# Altium integrated library MAR_modems_board_A0.IntLib: 45 symbols
Pins are listed as number, name and electrical type; pins without a type are passive.

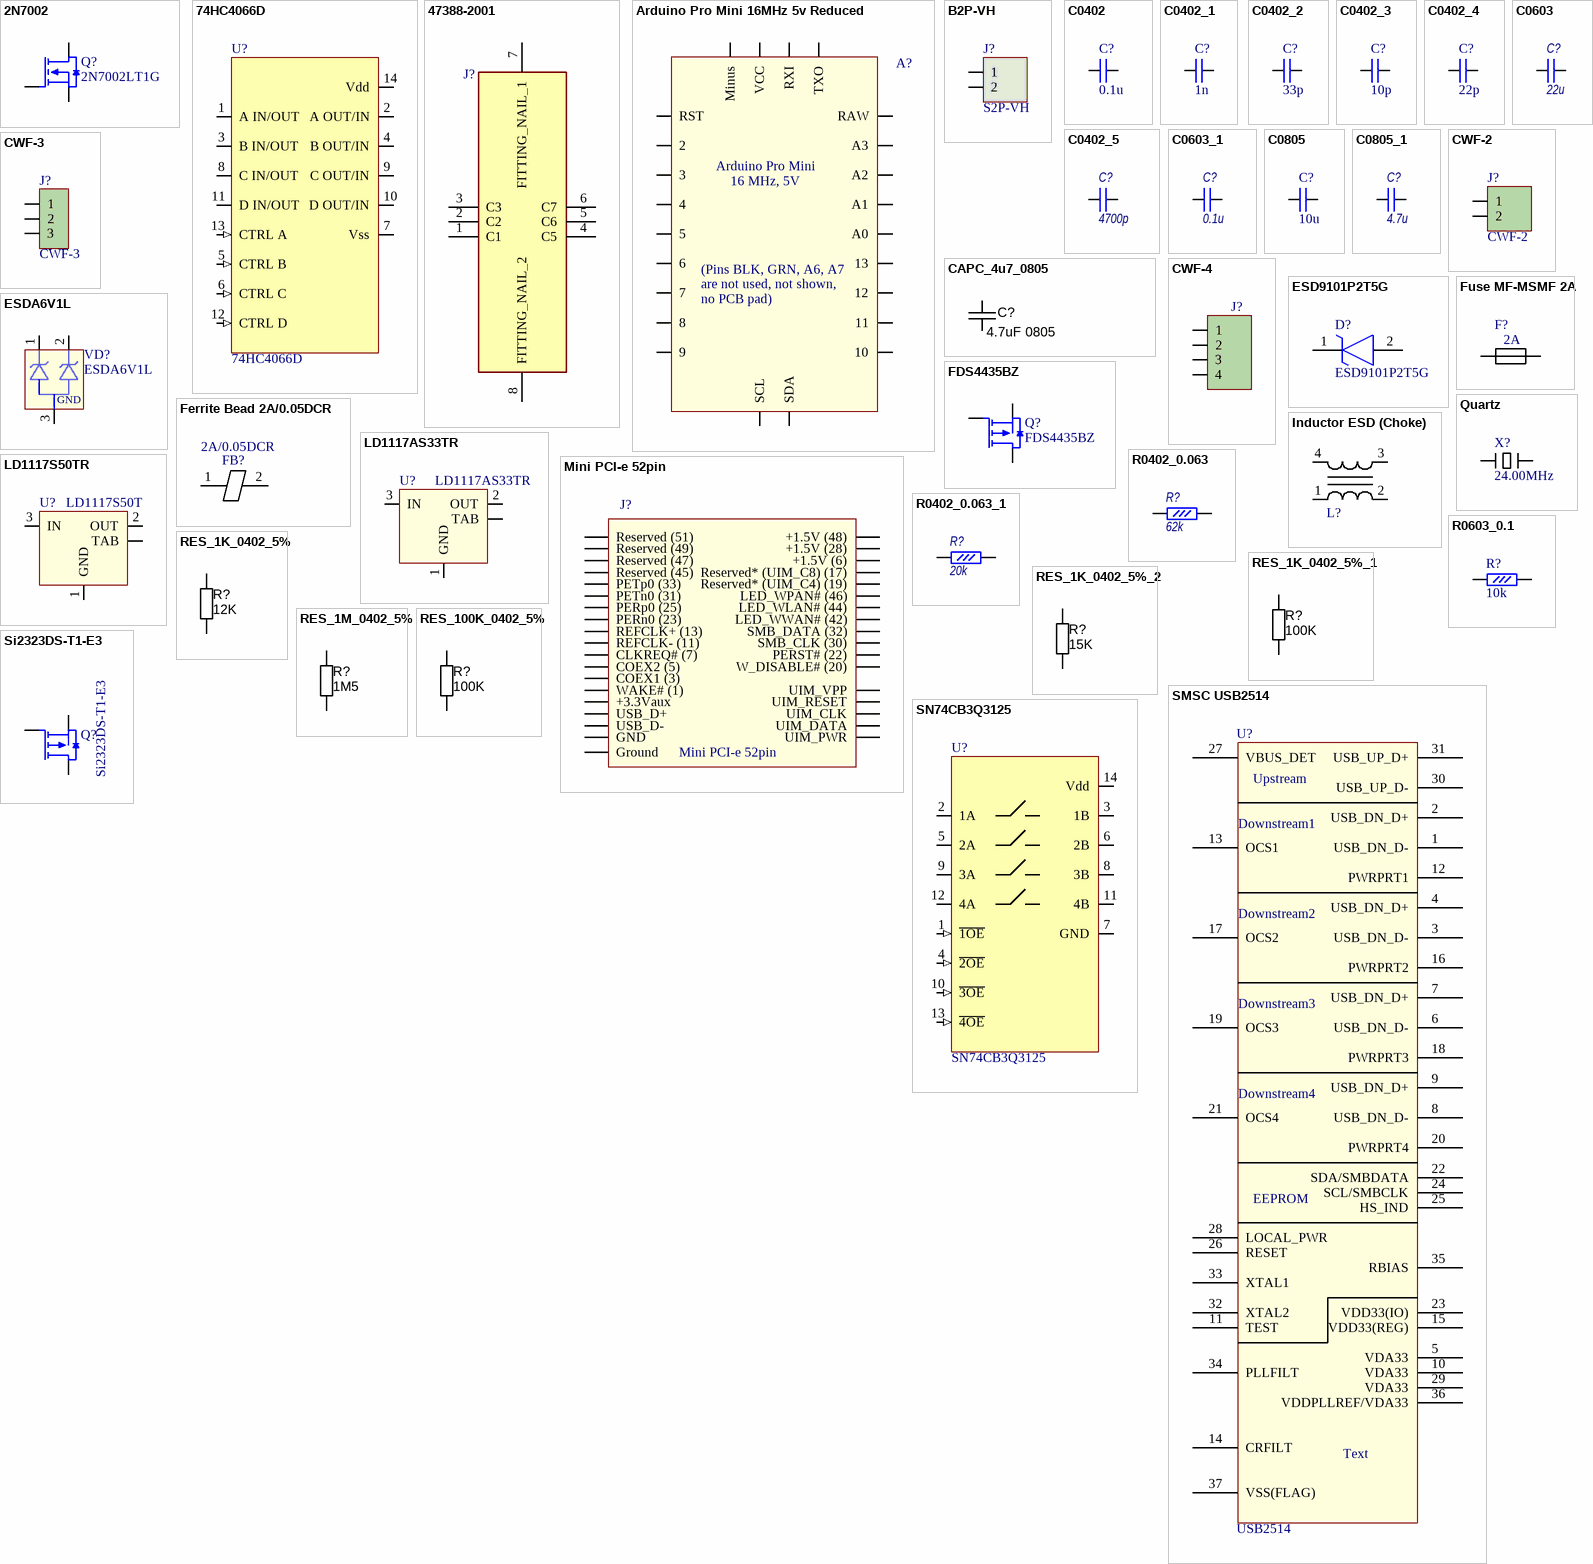
[diagram p0: symbols 2N7002 to SN74CB3Q3125]

## 2N7002
designator Q?, comment PartNumber: 2N7002LT1G  (hidden comment: Транзистор, 2N7002LT1G)
N-channel OptiMOS™ Small-Signal-Transistor; Manufacturer: Mnf; Family: Транзистор; Package: SOT23; Assembly: 2N7002LT1G
footprint SOT23 (SOT23 package 1.3 x 2.9 mm)
pins: 1 G "Gate", 2 S "Source", 3 D "Drain"

## 74HC4066D
designator U?
CMOS QUAD BILATERAL SWITCH; Manufacturer: Nexperia; Family: Микросхема; Package: SOIC-14; PartNumber: 74HC4066D
footprint 14-SOIC (pitch 1.27 mm)
pins: 1 A IN/OUT (io), 2 A OUT/IN (io), 3 B IN/OUT (io), 4 B OUT/IN (io), 5 CTRL B (in), 6 CTRL C (in), 7 Vss (power), 8 C IN/OUT (io), 9 C OUT/IN (io), 10 D OUT/IN (io), 11 D IN/OUT (io), 12 CTRL D (in), 13 CTRL A (in), 14 Vdd (power)

## 47388-2001
designator J?  (value not drawn)
Connector; Manufacturer_Name: Molex; Datasheet Link: https://www.molex.com/webdocs/datasheets/pdf/en-us/0473882001_MEMORY_CARD_SOCKET.pdf; Height: 1mm; Manufacturer_Part_Number: 47388-2001; Arrow Part Number: 47388-2001; Arrow Price/Stock: https://www.arrow.com/en/products/47388-2001/molex; Mouser Part Number: 538-47388-2001; Mouser Price/Stock: https://www.mouser.co.uk/ProductDetail/Molex/47388-2001?qs=KKUMDL8WE1K2q3cPEOwmLw%3D%3D
footprint 473882001
pins: 1 C1, 2 C2, 3 C3, 4 C5, 5 C6, 6 C7, 7 FITTING_NAIL_1, 8 FITTING_NAIL_2

## Arduino Pro Mini 16MHz 5v Reduced
designator A?, comment Интегрированный модуль Arduino Pro Mini, 16 МГц, 5В PBS-12 (DS1023-1x12)(x2) PBS-4 (DS1023-1x4)PartNumber3  (value not drawn)
Arduino Pro Mini 16MHz 5v; Family: Интегрированный модуль Arduino Pro Mini, 16 МГц, 5В; PartNumber1: PBS-12 (DS1023-1x12); PartNumber2: PBS-4 (DS1023-1x4); PartNumber3: PBS-2 (DS1023-1x2)
footprint Arduino Pro Mini Reduced (Arduino Pro Mini 15Mhz 5v, Reduced version)
pins: 2, 3, 4, 5, 6, 7, 8, 9, 10, 11, 12, 13, A0, A1, A2, A3, A4 SDA, A5 SCL, Minus, RAW, RST, RXI, TXO, VCC
text: Arduino Pro Mini; 16 MHz, 5V; (Pins BLK, GRN, A6, A7; are not used, not shown,; no PCB pad)

## B2P-VH
designator J?, comment value S2P-VH  (hidden comment: Разъём (вилка), S2P-VH)
2-pin male header, pitch 3.96 mm; Manufacturer: JST (China); Family: Разъём (вилка); PartNumber: S2P-VH; Assembly: S2P-VH
footprint B2P-VH (Connector Header, 2-pin, Pitch 3.96 mm)
footprint PWL2-02R (Connector Header, 2-pin, Pitch 3.96 mm, Side Mount with stabilizer)
pins: 1, 2

## C0402
designator C?, comment value 0.1u  (hidden comment: Конденсатор SMD, 0.1мкФ, X7R, 25В, 10%, 0402)
Chip Capacitor 0402; Assembly: 0.1u_X7R_25V_10%_0402; Voltage_assembly: 25V; Voltage: 25В; Tolerance: 10%; TemperatureCoeff: X7R; Family: Конденсатор SMD; Capacitance: 0.1мкФ; Package: 0402
footprint C0402 (Chip ceramic capacitor 0402)
pins: 1, 2

## C0402_1
designator C?, comment value 1n  (hidden comment: Конденсатор SMD, 1нФ, X7R, 25В, 10%, 0402)
Chip Capacitor 0402; Assembly: 1n_X7R_25V_10%_0402; Voltage_assembly: 25V; Tolerance: 10%; Voltage: 25В; TemperatureCoeff: X7R; Family: Конденсатор SMD; Capacitance: 1нФ; Package: 0402
footprint C0402 (Chip ceramic capacitor 0402)
pins: 1, 2

## C0402_2
designator C?, comment value 33p  (hidden comment: Конденсатор SMD, 33пФ, X7R, 16В, 10%, 0402)
Chip Capacitor 0402; Assembly: 33p_X7R_16V_10%_0402; Voltage_assembly: 16V; Voltage: 16В; Tolerance: 10%; TemperatureCoeff: X7R; Family: Конденсатор SMD; Capacitance: 33пФ; Package: 0402
footprint C0402 (Chip ceramic capacitor 0402)
pins: 1, 2

## C0402_3
designator C?, comment value 10p  (hidden comment: Конденсатор SMD, 10пФ, X7R, 16В, 10%, 0402)
Chip Capacitor 0402; Assembly: 10p_X7R_16V_10%_0402; Voltage_assembly: 16V; Voltage: 16В; Tolerance: 10%; TemperatureCoeff: X7R; Family: Конденсатор SMD; Capacitance: 10пФ; Package: 0402
footprint C0402 (Chip ceramic capacitor 0402)
pins: 1, 2

## C0402_4
designator C?, comment value 22p  (hidden comment: Конденсатор SMD, 22пФ, X7R, 50В, 10%, 0402)
Chip Capacitor 0402; Assembly: 22p_X7R_50V_10%_0402; Voltage_assembly: 50V; Tolerance: 10%; Voltage: 50В; TemperatureCoeff: X7R; Family: Конденсатор SMD; Capacitance: 22пФ; Package: 0402
footprint C0402 (Chip ceramic capacitor 0402)
pins: 1, 2

## C0402_5
designator C?, comment value 4700p  (hidden comment: Конденсатор SMD, 4700p, X7R, 6.3В, 10%, 0402)
Chip Capacitor 0402; Capacitance: 4700пФ; Assembly: 4700p_X7R_25V_10%_0402; Voltage_assembly: 25V; Voltage: 6.3В; Tolerance: 10%; TemperatureCoeff: X7R; Family: Конденсатор SMD; Package: 0402
footprint C0402 (Chip ceramic capacitor 0402)
pins: 1, 2

## C0603
designator C?, comment value 22u  (hidden comment: Конденсатор SMD, 22мкФ, X7R, 6.3В, 10%, 0603)
Chip Capacitor 0603; Voltage_assembly: 25V; Assembly: 22u_X7R_25V_10%_0603; Voltage: 6.3В; Tolerance: 10%; TemperatureCoeff: X7R; Family: Конденсатор SMD; Package: 0603; Capacitance: 22мкФ
footprint C0603 (Chip ceramic capacitor 0603)
pins: 1, 2

## C0603_1
designator C?, comment value 0.1u  (hidden comment: Конденсатор SMD, 0.1мкФ, X7R, 6.3В, 10%, 0603)
Chip Capacitor 0603; Voltage_assembly: 25V; Assembly: 0.1u_X7R_25V_10%_0603; Voltage: 6.3В; Tolerance: 10%; TemperatureCoeff: X7R; Family: Конденсатор SMD; Package: 0603; Capacitance: 0.1мкФ
footprint C0603 (Chip ceramic capacitor 0603)
pins: 1, 2

## C0805
designator C?, comment value 10u  (hidden comment: Конденсатор SMD, 10мкФ, X7R, 16В, 10%, 0805)
Chip Capacitor 0805; Assembly: 10u_X7R_16V_10%_0805; Voltage_assembly: 16V; Voltage: 16В; Tolerance: 10%; TemperatureCoeff: X7R; Family: Конденсатор SMD; Package: 0805; Capacitance: 10мкФ
footprint C0805 (Chip ceramic capacitor 0805)
pins: 1, 2

## C0805_1
designator C?, comment value 4.7u  (hidden comment: Конденсатор SMD, 4.7мкФ, X7R, 50В, 10%, 0805)
Chip Capacitor 0805; Assembly: 4.7u_X7R_50V_10%_0805; Voltage_assembly: 50V; Voltage: 50В; Tolerance: 10%; TemperatureCoeff: X7R; Family: Конденсатор SMD; Package: 0805; Capacitance: 4.7мкФ
footprint C0805 (Chip ceramic capacitor 0805)
pins: 1, 2

## CAPC_4u7_0805
designator C?, comment value 4.7uF 0805  (hidden comment: approved sub OK)
Capacitor SMD Cer 4.7uF 10% 16V X5R 0805; Manufacturer 1: Taiyo Yuden; Manufacturer Part Number 1: EMK212BJ475KG-T; Ratings: 16V; X5R; Material: ceramic; SCDType: spec; Package / Case: 0805 (2012 Metric); Tolerance: ±10%; Supplier 1: Digi-Key; Supplier Part Number 1: 587-1294-1-ND; Operating Temperature: -55°C ~ 85°C; Size / Dimension: 0.079" L x 0.049" W (2.00mm x 1.25mm); Thickness (Max): 0.053" (1.35mm); ComponentLink1URL: http://www.yuden.co.jp/productdata/catalog/en/mlcc01_e.pdf; ComponentLink1Description: http://www.yuden.co.jp/productdata/catalog/en/mlcc01_e.pdf; Supplier 2: Digi-Key; Supplier Part Number 2: 1276-1065-1-ND; Manufacturer 2: Samsung Electro-Mechanics America, Inc; Manufacturer Part Number 2: CL21A475KOFNNNE; RoHS 2: RoHS Compliant; ComponentLink2URL: http://www.samsungsem.com/servlet/FileDownload?type=spec&file=CL21A475KOFNNNE.pdf; ComponentLink2Description: http://www.samsungsem.com/servlet/FileDownload?type=spec&file=CL21A475KOFNNNE.pdf; Supplier 3: Digi-Key; Supplier Part Number 3: 399-8101-1-ND; Manufacturer 3: Kemet; Manufacturer Part Number 3: C0805C475K4PACTU; RoHS 3: RoHS Compliant; ComponentLink3URL: http://capacitoredge.kemet.com/capedge2/DataSheet?pn=C0805C475K4PACTU; ComponentLink3Description: http://capacitoredge.kemet.com/capedge2/DataSheet?pn=C0805C475K4PACTU; Supplier 4: Digi-Key; Supplier Part Number 4: 490-7215-1-ND; Manufacturer 4: Murata Electronics North America; Manufacturer Part Number 4: GRM21BR61C475MA88L; RoHS 4: RoHS Compliant; ComponentLink4URL: http://psearch.murata.com/capacitor/product/GRM21BR61C475MA88#.pdf; ComponentLink4Description: http://psearch.murata.com/capacitor/product/GRM21BR61C475MA88#.pdf; Supplier 5: Digi-Key; Supplier Part Number 5: 445-7640-1-ND; Manufacturer 5: TDK Corporation; Manufacturer Part Number 5: C2012X5R1C475K125AC; RoHS 5: RoHS Compliant; ComponentLink5URL: http://product.tdk.com/capacitor/mlcc/en/documents/mlcc_commercial_general_en.pdf; ComponentLink5Description: http://product.tdk.com/capacitor/mlcc/en/documents/mlcc_commercial_general_en.pdf; RoHS 1: RoHS Compliant
footprint CAPC2012X135N (Chip Capacitor, Body 2.0x1.2mm, 0805, IPC Medium Density)
pins: 1, 2

## CWF-2
designator J?, comment value CWF-2  (hidden comment: Разъём (вилка), CWF-2 (DS1069-2 M))
CWF-2; Manufacturer: (China); Family: Разъём (вилка); PartNumber: CWF-2 (DS1069-2 M); Assembly: CWF-2
footprint CWF-2 (On-board power connector CWF-2)
pins: 1, 2

## CWF-3
designator J?, comment value CWF-3  (hidden comment: Разъём (вилка), CWF-3 (DS1069-3 M))
3-pin male though-hole connector, pitch 2.5 mm; Manufacturer: (China); Family: Разъём (вилка); PartNumber: CWF-3 (DS1069-3 M); Assembly: CWF-3
footprint CWF-3 (On-board power connector CWF-3)
pins: 1, 2, 3

## CWF-4
designator J?, comment Разъём (вилка), CWF-4 (DS1069-4 M)  (value not drawn)
4-pin male though-hole connector, pitch 2.5 mm; Manufacturer: Confly (China); Family: Разъём (вилка); PartNumber: CWF-4 (DS1069-4 M); Assembly: CWF-4; Value: CWF-4
footprint CWF-4 (On-board power connector, 4-pin, male, through-hole, pitch 2.5 mm)
pins: 1, 2, 3, 4

## ESD9101P2T5G
designator D?
TVS Diode (Uni-directional); Manufacturer_Name: ON Semiconductor; Datasheet Link: http://www.onsemi.com/pub/Collateral/ESD9101-D.PDF; Height: 0.4mm; Manufacturer_Part_Number: ESD9101P2T5G; Family: Диод защитный; PartNumber: ESD9101P2T5G
footprint SODFL1006X40N
pins: 1 K, 2 A

## ESDA6V1L
designator VD?, comment PartNumber: ESDA6V1L  (hidden comment: Диод защитный, ESDA6V1L)
Dual diode array for ESD protection; Manufacturer: STMicroelectronics; Family: Диод защитный; Package: SOT23; Assembly: ESDA6V1L
footprint SOT23-3L (3-lead 1.45x2.9 package)
pins: 1, 2, 3 GND

## FDS4435BZ
designator Q?, comment PartNumber: FDS4435BZ  (hidden comment: Транзистор, FDS4435BZ)
P-Shannel 30 V 8A MOSFET; Manufacturer: Fairchild; Family: Транзистор; Package: SO-8; Assembly: FDS4435BZ
footprint SO-8 (SOIC, 8-Leads, Body 4,90x3,90mm, Pitch 1,27mm, IPC Medium Density)
pins: 1 S "Source", 2 G "Gate", 3 D "Drain"

## Ferrite Bead 2A/0.05DCR
designator FB?, comment 2A/0.05DCR
Ferrite Bead 2A/0.05DCR
footprint RESC2012X70N (Chip Resistor, Body 2.0x1.2mm, EIA 0805, IPC Medium Density)
pins: 1, 2

## Fuse MF-MSMF 2A
designator F?  (value not drawn)
footprint MF-MSMF Fuse (Chip Resistor, 2-Leads, Body 4,5x3,2mm, IPC Medium Density)
pins: 1, 2
text: 2A

## Inductor ESD (Choke)
designator L?  (value not drawn)
DLW21HN900SQ2L
footprint EMI Choke Murata (Choke Murata DLW21HN900SQ2L)
pins: 1, 2, 3, 4

## LD1117AS33TR
designator U?, comment PartNumber: LD1117AS33TR  (hidden comment: Микросхема, LD1117AS33TR)
0.8-A, Positive Fixed-Voltage, Low-Dropout Regulator; Manufacturer: ST Microelectronics; Family: Микросхема; Package: SOT223; Assembly: LD1117AS33TR
footprint SOT223 (SOT223, 4-Leads, Body 6,50x3,50mm (avg), Pitch 2,30mm, IPC Medium Density)
pins: 1 GND (power), 2 OUT (power) "Regulated output voltage pin.", 3 IN (power) "Input pin.", 4 TAB

## LD1117S50TR
designator U?, comment PartNumber: LD1117S50T  (hidden comment: Микросхема, LD1117S50T)
0.8-A, Positive Fixed-Voltage, Low-Dropout Regulator; Manufacturer: ST Microelectronics; Family: Микросхема; Package: SOT223; Assembly: LD1117S50T
footprint SOT223 (SOT223, 4-Leads, Body 6,50x3,50mm (avg), Pitch 2,30mm, IPC Medium Density)
pins: 1 GND (power), 2 OUT (power) "Regulated output voltage pin.", 3 IN (power) "Input pin.", 4 TAB

## Mini PCI-e 52pin
designator J?
footprint Mini PCI-E 52pin 2 mnt (Mini PCI-E 52pin TE 1775838)
pins: 0 Ground, 1 WAKE# (1), 3 COEX1 (3), 3v3 +3.3Vaux, 5 COEX2 (5), 6 +1.5V (6), 7 CLKREQ# (7), 8 UIM_PWR, 10 UIM_DATA, 11 REFCLK- (11), 12 UIM_CLK, 13 REFCLK+ (13), 14 UIM_RESET, 16 UIM_VPP, 17 Reserved* (UIM_C8) (17), 19 Reserved* (UIM_C4) (19), 20 W_DISABLE# (20), 22 PERST# (22), 23 PERn0 (23), 25 PERp0 (25), 28 +1.5V (28), 30 SMB_CLK (30), 31 PETn0 (31), 32 SMB_DATA (32), 33 PETp0 (33), 36 USB_D-, 38 USB_D+, 42 LED_WWAN# (42), 44 LED_WLAN# (44), 45 Reserved (45), 46 LED_WPAN# (46), 47 Reserved (47), 48 +1.5V (48), 49 Reserved (49), 51 Reserved (51), GND

## Quartz
designator X?, comment 24.00MHz
Quartz KX-K
footprint Quartz SMD KX-K
pins: 1, 2

## R0402_0.063
designator R?, comment value 62k  (hidden comment: Резистор SMD, 0.063Вт, 0402, 62кОм, 1%)
Chip Resistor 0402, 0.063 W; Assembly: 62k_0.063W_1%_0402; Power_assembly: 0.063W; Power: 0.063Вт; Tolerance: 1%; Family: Резистор SMD; Package: 0402; Resistance: 62кОм
footprint R0402 (Chip resistor 0402)
pins: 1, 2

## R0402_0.063_1
designator R?, comment value 20k  (hidden comment: Резистор SMD, 0.063Вт, 0402, 20кОм, 1%)
Chip Resistor 0402, 0.063 W; Assembly: 20k_0.063W_1%_0402; Power_assembly: 0.063W; Power: 0.063Вт; Tolerance: 1%; Family: Резистор SMD; Package: 0402; Resistance: 20кОм
footprint R0402 (Chip resistor 0402)
pins: 1, 2

## R0603_0.1
designator R?, comment value 10k  (hidden comment: Резистор SMD, 0.1Вт, 0603, 10кОм, 1%)
Chip Resistor 0603, 0.1 W; Assembly: 10k_0.1W_1%_0603; Power_assembly: 0.1W; Power: 0.1Вт; Tolerance: 1%; Family: Резистор SMD; Package: 0603; Resistance: 10кОм
footprint R0603 (Chip resistor 0603)
pins: 1, 2

## RES_1K_0402_5%
designator R?, comment value 12K  (hidden comment: Thick Film)
Resistor SMD chip 1k Ohm 0.063W 5% 0402; Manufacturer 1: Yageo; Manufacturer Part Number 1: RC0402JR-071KL; Ratings: 1/16 W; SCDType: spec; Package / Case: 0402 (1005 Metric); Tolerance: ±5%; Supplier 1: Digi-Key; Supplier Part Number 1: 311-1.0KJRCT-ND; RoHS 1: RoHS Compliant; ComponentLink1URL: http://www.yageo.com/documents/recent/PYu-RC0402_51_RoHS_L_6.pdf; ComponentLink1Description: http://www.yageo.com/documents/recent/PYu-RC0402_51_RoHS_L_6.pdf; Supplier 2: Digi-Key; Supplier Part Number 2: 541-1.0KJCT-ND; Manufacturer 2: Vishay Dale; Manufacturer Part Number 2: CRCW04021K00JNED; RoHS 2: RoHS Compliant; ComponentLink2URL: http://www.vishay.com/doc?20035; ComponentLink2Description: http://www.vishay.com/doc?20035; Supplier 3: Digi-Key; Supplier Part Number 3: 1276-4376-1-ND; Manufacturer 3: Samsung Electro-Mechanics America, Inc; Manufacturer Part Number 3: RC1005J102CS; RoHS 3: RoHS Compliant; ComponentLink3URL: http://www.samsungsem.com/servlet/FileDownload?filename=productcatalog/pdf/Chip_Resistor.pdf; ComponentLink3Description: http://www.samsungsem.com/servlet/FileDownload?filename=productcatalog/pdf/Chip_Resistor.pdf; Supplier 4: Digi-Key; Supplier Part Number 4: RHM1.0KCECT-ND; Manufacturer 4: Rohm Semiconductor; Manufacturer Part Number 4: MCR01MRTJ102; RoHS 4: RoHS Compliant; ComponentLink4URL: http://rohmfs.rohm.com/en/products/databook/datasheet/passive/resistor/chip_resistor/mcr_g.pdf; ComponentLink4Description: http://rohmfs.rohm.com/en/products/databook/datasheet/passive/resistor/chip_resistor/mcr_g.pdf; Supplier 5: Digi-Key; Supplier Part Number 5: P1.0KJCT-ND; Manufacturer 5: Panasonic Electronic Components; Manufacturer Part Number 5: ERJ-2GEJ102X; RoHS 5: RoHS Compliant; ComponentLink5URL: http://industrial.panasonic.com/www-cgi/jvcr13pz.cgi?E+PZ+3+AOA0001+ERJ2GEJ102X+7+WW; ComponentLink5Description: http://industrial.panasonic.com/www-cgi/jvcr13pz.cgi?E+PZ+3+AOA0001+ERJ2GEJ102X+7+WW
footprint RESC1005X40N (Chip Resistor, Body 1.0x0.5mm, EIA 0402, IPC Medium Density)
pins: 1, 2

## RES_1K_0402_5%_1
designator R?, comment value 100K  (hidden comment: Thick Film)
Resistor SMD chip 1k Ohm 0.063W 5% 0402; Manufacturer 1: Yageo; Manufacturer Part Number 1: RC0402JR-071KL; Ratings: 1/16 W; SCDType: spec; Package / Case: 0402 (1005 Metric); Tolerance: ±5%; Supplier 1: Digi-Key; Supplier Part Number 1: 311-1.0KJRCT-ND; RoHS 1: RoHS Compliant; ComponentLink1URL: http://www.yageo.com/documents/recent/PYu-RC0402_51_RoHS_L_6.pdf; ComponentLink1Description: http://www.yageo.com/documents/recent/PYu-RC0402_51_RoHS_L_6.pdf; Supplier 2: Digi-Key; Supplier Part Number 2: 541-1.0KJCT-ND; Manufacturer 2: Vishay Dale; Manufacturer Part Number 2: CRCW04021K00JNED; RoHS 2: RoHS Compliant; ComponentLink2URL: http://www.vishay.com/doc?20035; ComponentLink2Description: http://www.vishay.com/doc?20035; Supplier 3: Digi-Key; Supplier Part Number 3: 1276-4376-1-ND; Manufacturer 3: Samsung Electro-Mechanics America, Inc; Manufacturer Part Number 3: RC1005J102CS; RoHS 3: RoHS Compliant; ComponentLink3URL: http://www.samsungsem.com/servlet/FileDownload?filename=productcatalog/pdf/Chip_Resistor.pdf; ComponentLink3Description: http://www.samsungsem.com/servlet/FileDownload?filename=productcatalog/pdf/Chip_Resistor.pdf; Supplier 4: Digi-Key; Supplier Part Number 4: RHM1.0KCECT-ND; Manufacturer 4: Rohm Semiconductor; Manufacturer Part Number 4: MCR01MRTJ102; RoHS 4: RoHS Compliant; ComponentLink4URL: http://rohmfs.rohm.com/en/products/databook/datasheet/passive/resistor/chip_resistor/mcr_g.pdf; ComponentLink4Description: http://rohmfs.rohm.com/en/products/databook/datasheet/passive/resistor/chip_resistor/mcr_g.pdf; Supplier 5: Digi-Key; Supplier Part Number 5: P1.0KJCT-ND; Manufacturer 5: Panasonic Electronic Components; Manufacturer Part Number 5: ERJ-2GEJ102X; RoHS 5: RoHS Compliant; ComponentLink5URL: http://industrial.panasonic.com/www-cgi/jvcr13pz.cgi?E+PZ+3+AOA0001+ERJ2GEJ102X+7+WW; ComponentLink5Description: http://industrial.panasonic.com/www-cgi/jvcr13pz.cgi?E+PZ+3+AOA0001+ERJ2GEJ102X+7+WW
footprint RESC1005X40N (Chip Resistor, Body 1.0x0.5mm, EIA 0402, IPC Medium Density)
pins: 1, 2

## RES_1K_0402_5%_2
designator R?, comment value 15K  (hidden comment: Thick Film)
Resistor SMD chip 1k Ohm 0.063W 5% 0402; Manufacturer 1: Yageo; Manufacturer Part Number 1: RC0402JR-071KL; Ratings: 1/16 W; SCDType: spec; Package / Case: 0402 (1005 Metric); Tolerance: ±5%; Supplier 1: Digi-Key; Supplier Part Number 1: 311-1.0KJRCT-ND; RoHS 1: RoHS Compliant; ComponentLink1URL: http://www.yageo.com/documents/recent/PYu-RC0402_51_RoHS_L_6.pdf; ComponentLink1Description: http://www.yageo.com/documents/recent/PYu-RC0402_51_RoHS_L_6.pdf; Supplier 2: Digi-Key; Supplier Part Number 2: 541-1.0KJCT-ND; Manufacturer 2: Vishay Dale; Manufacturer Part Number 2: CRCW04021K00JNED; RoHS 2: RoHS Compliant; ComponentLink2URL: http://www.vishay.com/doc?20035; ComponentLink2Description: http://www.vishay.com/doc?20035; Supplier 3: Digi-Key; Supplier Part Number 3: 1276-4376-1-ND; Manufacturer 3: Samsung Electro-Mechanics America, Inc; Manufacturer Part Number 3: RC1005J102CS; RoHS 3: RoHS Compliant; ComponentLink3URL: http://www.samsungsem.com/servlet/FileDownload?filename=productcatalog/pdf/Chip_Resistor.pdf; ComponentLink3Description: http://www.samsungsem.com/servlet/FileDownload?filename=productcatalog/pdf/Chip_Resistor.pdf; Supplier 4: Digi-Key; Supplier Part Number 4: RHM1.0KCECT-ND; Manufacturer 4: Rohm Semiconductor; Manufacturer Part Number 4: MCR01MRTJ102; RoHS 4: RoHS Compliant; ComponentLink4URL: http://rohmfs.rohm.com/en/products/databook/datasheet/passive/resistor/chip_resistor/mcr_g.pdf; ComponentLink4Description: http://rohmfs.rohm.com/en/products/databook/datasheet/passive/resistor/chip_resistor/mcr_g.pdf; Supplier 5: Digi-Key; Supplier Part Number 5: P1.0KJCT-ND; Manufacturer 5: Panasonic Electronic Components; Manufacturer Part Number 5: ERJ-2GEJ102X; RoHS 5: RoHS Compliant; ComponentLink5URL: http://industrial.panasonic.com/www-cgi/jvcr13pz.cgi?E+PZ+3+AOA0001+ERJ2GEJ102X+7+WW; ComponentLink5Description: http://industrial.panasonic.com/www-cgi/jvcr13pz.cgi?E+PZ+3+AOA0001+ERJ2GEJ102X+7+WW
footprint RESC1005X40N (Chip Resistor, Body 1.0x0.5mm, EIA 0402, IPC Medium Density)
pins: 1, 2

## RES_1M_0402_5%
designator R?, comment value 1M5  (hidden comment: Thick Film)
Resistor SMD chip 1M Ohm 0.063W 5% 0402; Manufacturer 1: Vishay Dale; Manufacturer Part Number 1: CRCW04021M00JNED; Ratings: 1/16 W; Power Rating: 0.063W, 1/16W; SCDType: spec; Package / Case: 0402 (1005 Metric); Tolerance: ±5%; Material: Thick Film; Manufacturer 2: Yageo; Manufacturer Part Number 2: RC0402JR-071ML; Supplier 1: Digi-Key; Supplier Part Number 1: 541-1.0MJCT-ND; ComponentLink1URL: http://www.vishay.com/doc?20035; ComponentLink1Description: http://www.vishay.com/doc?20035; Supplier 2: Digi-Key; Supplier Part Number 2: 311-1.0MJRCT-ND; ComponentLink2URL: http://www.yageo.com/documents/recent/PYu-RC0402_51_RoHS_L_6.pdf; ComponentLink2Description: http://www.yageo.com/documents/recent/PYu-RC0402_51_RoHS_L_6.pdf
footprint RESC1005X40N (Chip Resistor, Body 1.0x0.5mm, EIA 0402, IPC Medium Density)
pins: 1, 2

## RES_100K_0402_5%
designator R?, comment value 100K  (hidden comment: Thick Film)
Resistor SMD chip 100k Ohm 0.063W 5% 0402; Manufacturer 1: Vishay Dale; Manufacturer Part Number 1: CRCW0402100KJNED; Ratings: 1/16 W; SCDType: undef; Package / Case: 0402 (1005 Metric); Tolerance: ±5%; ComponentLink2URL: http://www.yageo.com/documents/recent/PYu-RC0402_51_RoHS_L_6.pdf; ComponentLink2Description: http://www.yageo.com/documents/recent/PYu-RC0402_51_RoHS_L_6.pdf; Supplier 1: Digi-Key; Supplier Part Number 1: 541-100KJCT-ND; ComponentLink1URL: http://www.vishay.com/doc?20035; ComponentLink1Description: http://www.vishay.com/doc?20035; Supplier 2: Digi-Key; Supplier Part Number 2: 311-100KJRCT-ND; Manufacturer 2: Yageo; Manufacturer Part Number 2: RC0402JR-07100KL
footprint RESC1005X40N (Chip Resistor, Body 1.0x0.5mm, EIA 0402, IPC Medium Density)
pins: 1, 2

## Si2323DS-T1-E3
designator Q?, comment PartNumber: Si2323DS-T1-E3  (hidden comment: Транзистор, Si2323DS-T1-E3)
P-Shannel Power MOSFET, 3.7A, 1.25 W; Manufacturer: Vishay; Family: Транзистор; Package: SOT23; Assembly: Si2323DS-T1-E3
footprint SOT23 (SOT23 package 1.3 x 2.9 mm)
pins: 1 G "Gate", 2 S "Source", 3 D "Drain"

## SMSC USB2514
designator U?, comment USB2514
SMSC USB2514; type: USB2514
footprint USB-2514B 4port Hub (QFN, 36-Leads, Body 6.2x6.2mm (max), Pitch 0.50mm, IPC Medium Density)
pins: 1 USB_DN_D-, 2 USB_DN_D+, 3 USB_DN_D-, 4 USB_DN_D+, 5 VDA33, 6 USB_DN_D-, 7 USB_DN_D+, 8 USB_DN_D-, 9 USB_DN_D+, 10 VDA33, 11 TEST, 12 PWRPRT1, 13 OCS1, 14 CRFILT, 15 VDD33(REG), 16 PWRPRT2, 17 OCS2, 18 PWRPRT3, 19 OCS3, 20 PWRPRT4, 21 OCS4, 22 SDA/SMBDATA, 23 VDD33(IO), 24 SCL/SMBCLK, 25 HS_IND, 26 RESET, 27 VBUS_DET, 28 LOCAL_PWR, 29 VDA33, 30 USB_UP_D-, 31 USB_UP_D+, 32 XTAL2, 33 XTAL1, 34 PLLFILT, 35 RBIAS, 36 VDDPLLREF/VDA33, 37 VSS(FLAG)
text: Upstream; Downstream1; Downstream2; Downstream3; Downstream4; EEPROM; Text

## SN74CB3Q3125
designator U?, comment PartNumber: SN74CB3Q3125  (hidden comment: Микросхема, SN74CB3Q3125)
Quadruple FET Bus Switch; Manufacturer: Texas Instruments; Family: Микросхема; Package: TSSOP-14
footprint 14-TSOP
pins: 1 ~{1OE} (in), 2 1A (io), 3 1B (io), 4 ~{2OE} (in), 5 2A (io), 6 2B (io), 7 GND (power), 8 3B (io), 9 3A (io), 10 ~{3OE} (in), 11 4B (io), 12 4A (io), 13 ~{4OE} (in), 14 Vdd (power)

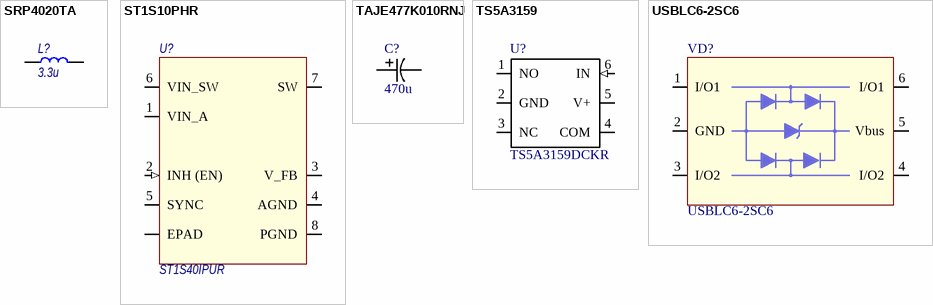
[diagram p1: symbols SRP4020TA to USBLC6-2SC6]

## SRP4020TA
designator L?, comment value 3.3u  (hidden comment: Катушка индуктивности, 3.3мкГн, SRP4020TA-3R3M)
Shielded Power Inductor; Manufacturer: Bourns Inc.; PartNumber: SRP4020TA-3R3M; Inductance: 3.3мкГн; Family: Катушка индуктивности; Assembly: SRP4020TA-3R3M
footprint SRP4020TA (SRP4020TA Power Inductor Series)
pins: 1, 2

## ST1S10PHR
designator U?, comment PartNumber: ST1S40IPUR  (hidden comment: Микросхема, ST1S40IPUR)
3 A, 900 kHz, monolithic synchronous step-down regulator IC; Manufacturer: STMicroelectronics; Family: Микросхема; Package: VFQFPN; Assembly: ST1S40IPUR
footprint SOIC8_STM_Power_SO-8 (STMicroelectronics power SO-8 package, 3.9x4.9 mm, Pitch 1.27 mm, E-pad)
footprint SON80P400X400X100-9N-D
pins: 0 EPAD "Exposed Pad", 1 VIN_A "Analog input supply voltage", 2 INH (EN) (in) "Inhibit pin active low", 3 V_FB "Feedback voltage", 4 AGND "Analog ground", 5 SYNC "Synchronization and frequency select", 6 VIN_SW "Power input supply voltage", 7 SW "Switching node", 8 PGND "Power ground"

## TAJE477K010RNJ
designator C?  value 470u  (hidden comment: TAJE477K010RNJ)
Chip capacitor 7343; Mfr_Name: KYOCERA AVX; Voltage: 10V; Assembly: 470u_10V_case-E_7343; Family: Конденсатор танталовый SMD; Package: case-E_7343
footprint TAJE_AVX
pins: 1, 2

## TS5A3159
designator U?  PartNumber: TS5A3159DCKR  (hidden comment: TS5A3159)
Analog SPDT Switch; Manufacturer: Texas Instruments; Family: Микросхема; Package: SC70-6
footprint SC70-6 (SOT23, 5-Leads, Body 2,90x2,80mm, Pitch 0,95mm, IPC Medium Density)
pins: 1 NO, 2 GND (power), 3 NC, 4 COM, 5 V+ (power), 6 IN (in)

## USBLC6-2SC6
designator VD?, comment Part Number: USBLC6-2SC6  (hidden comment: TVS Diode)
Very low capacitance ESD protection; Manufacturer: STMicroelectronics
footprint SOT23-6L (SOT23, 6-Leads, Body 2,90x1,60mm, Pitch 0,95mm, IPC Medium Density)
pins: 1 I/O1, 2 GND, 3 I/O2, 4 I/O2, 5 Vbus, 6 I/O1